# EAGLE library part SI-8660 (library MyComponents)
Ultra-low-power digital isolator (6 channels)
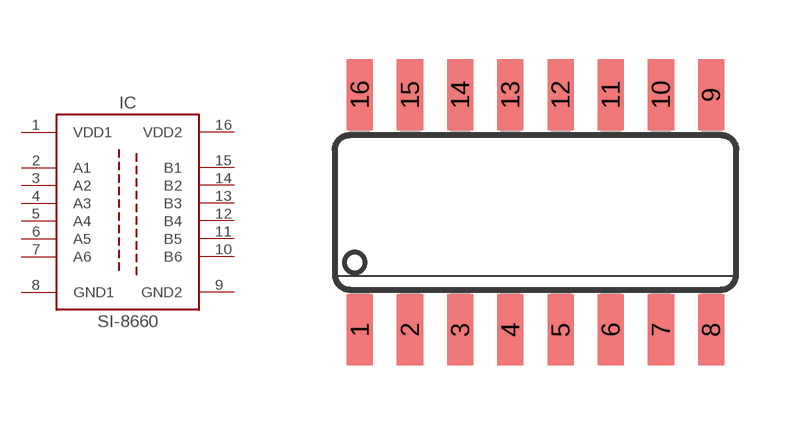
[diagram p26: symbol with the pads of SO16; footprint SO16]

Designator prefix IC

## SI-8660  [SO16]
1  VDD1
2  A1
3  A2
4  A3
5  A4
6  A5
7  A6
8  GND1
9  GND2
10  B6
11  B5
12  B4
13  B3
14  B2
15  B1
16  VDD2

## Footprint SO16 (pad centres in mm)
Small Outline package 150 mil
smd 0.66 x 1.8: 1 -4.445,-2.973; 2 -3.175,-2.973; 3 -1.905,-2.973; 4 -0.635,-2.973; 5 0.635,-2.973; 6 1.905,-2.973; 7 3.175,-2.973; 8 4.445,-2.973; 9 4.445,2.973; 10 3.175,2.973; 11 1.905,2.973; 12 0.635,2.973; 13 -0.635,2.973; 14 -1.905,2.973; 15 -3.175,2.973; 16 -4.445,2.973